# EAGLE library part NE5534 (library _motovilo)
OP AMP
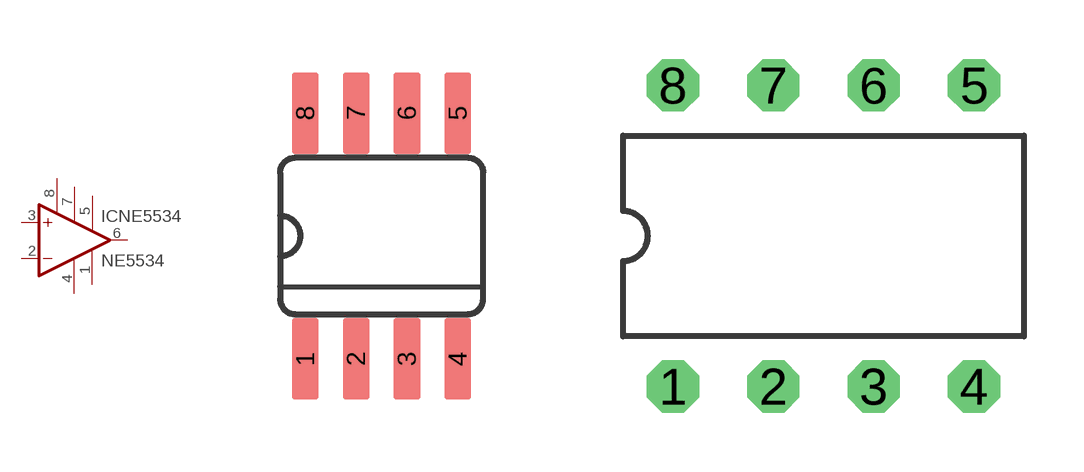
[diagram p3: symbol with the pads of SO08; footprints SO08, DIL08]

Designator prefix IC; gates NE5534=NE5534 P=PWR+-

## NE5534D  [SO08]
1  NE5534:BALANCE  pas
2  NE5534:-IN  in
3  NE5534:+IN  in
4  P:V-  pwr
5  NE5534:COMP  pas
6  NE5534:OUT  out
7  P:V+  pwr
8  NE5534:COMP/BAL  pas

## NE5534P  [DIL08]
Pads as for SO08

## Footprint SO08 (pad centres in mm)
smd 0.66 x 2.032: 1 -1.905,-3.073; 2 -0.635,-3.073; 3 0.635,-3.073; 4 1.905,-3.073; 5 1.905,3.073; 6 0.635,3.073; 7 -0.635,3.073; 8 -1.905,3.073

## Footprint DIL08 (pad centres in mm)
Dual In Line package type P
drill 0.813 octagon: 1 -3.81,-3.81; 2 -1.27,-3.81; 3 1.27,-3.81; 4 3.81,-3.81; 5 3.81,3.81; 6 1.27,3.81; 7 -1.27,3.81; 8 -3.81,3.81